# Altium footprint library Components.PcbLib: 46 footprints (part 3 of 3)
Each footprint in its own frame and in the unit in brackets; x right, y up, seen from the top. Pads: shape width x height; smd on the part's side, far side on the other; paste and mask are expansions set on the pad; w line width, h text height; cw(c..) or ccw(c..) is an arc to the next point about the centre after c.
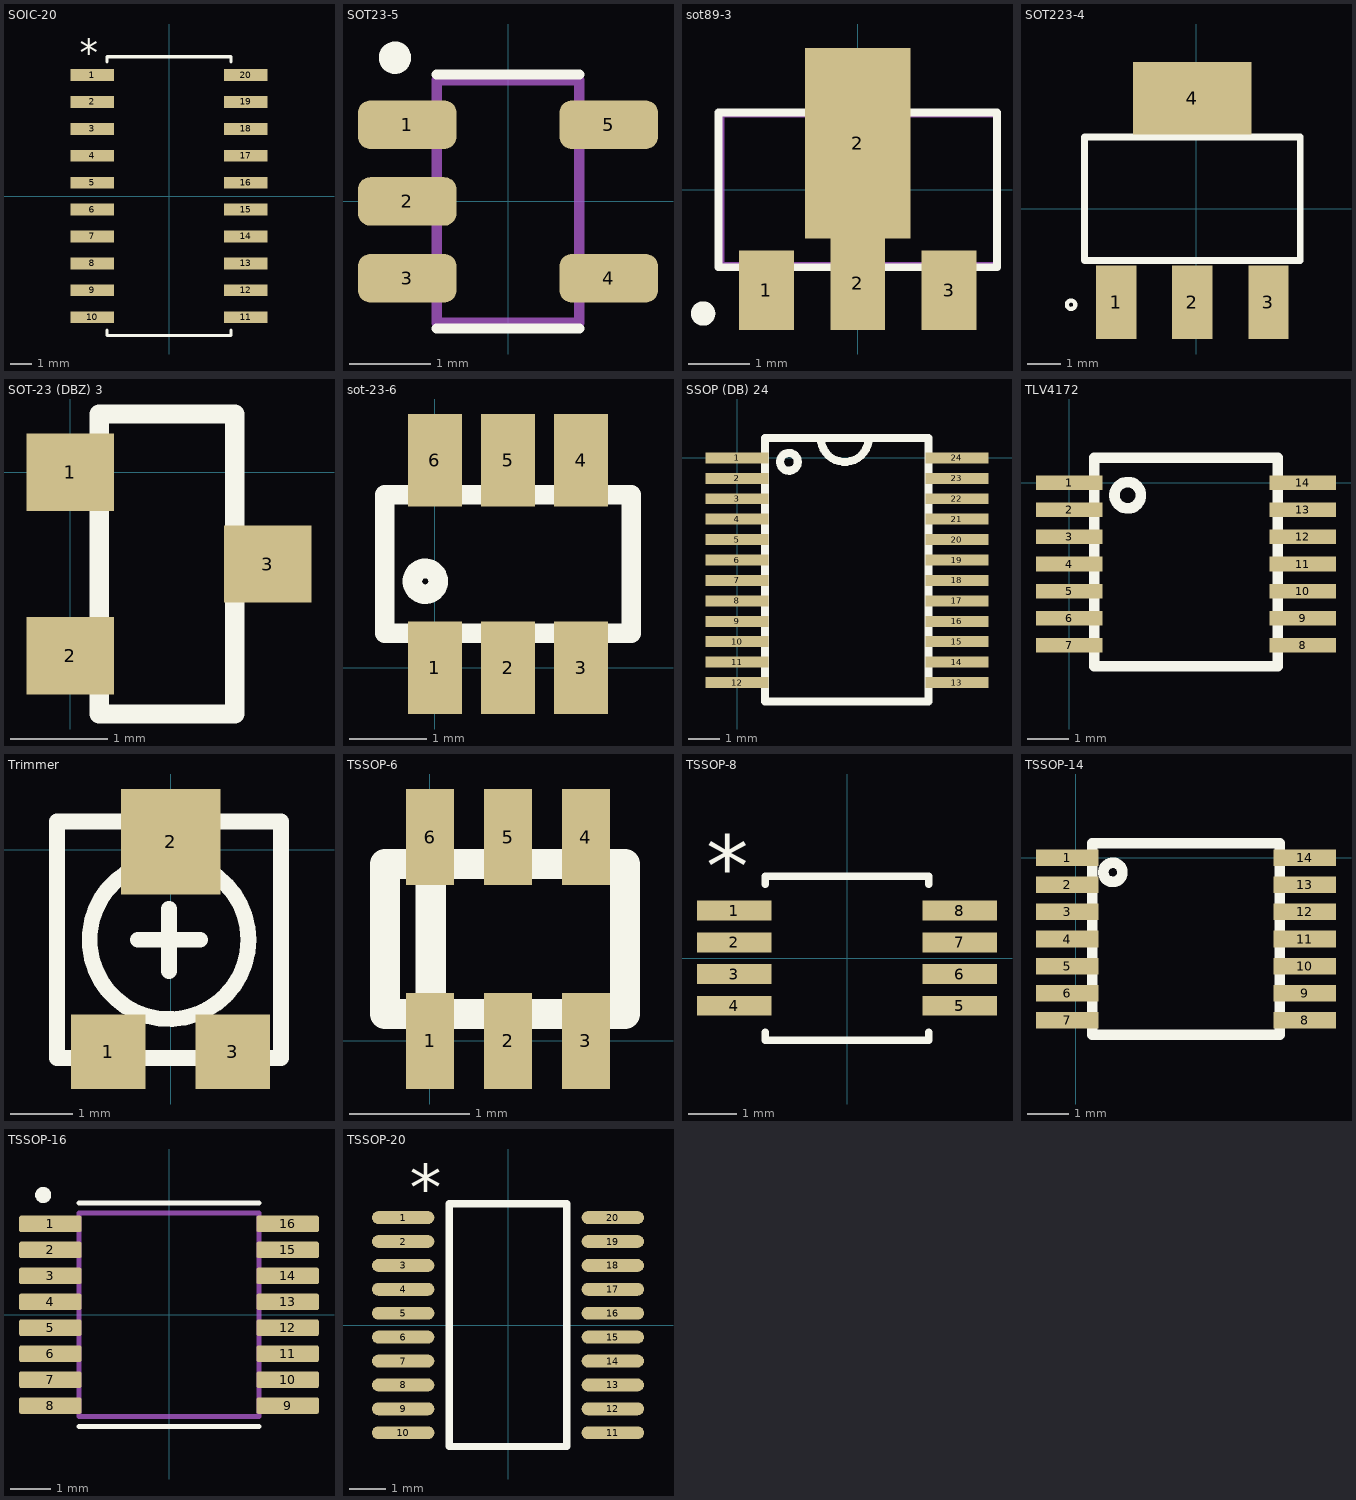
[diagram p2: the footprints below, top view; thin cyan lines are the x and y axes]

## SOIC-20 [mil]
pads (20):
  rect 81x22 smd paste+0 mask+0: 1(-143,225) 2(-143,175) 3(-143,125) 4(-143,75) 5(-143,25) 6(-143,-25) 7(-143,-75) 8(-143,-125) 9(-143,-175) 10(-143,-225) 11(143,-225) 12(143,-175) 13(143,-125) 14(143,-75) 15(143,-25) 16(143,25) 17(143,75) 18(143,125) 19(143,175) 20(143,225)
Top Overlay:
  lines w6: -115,-249.1 -115,-259 115,-259 115,-249.1 ; -115,249.1 -115,259 115,259 115,249.1
  text "*" at -165.5,242 h50
3D body "NS0020A.stp": height 78.74, standoff 0, extent -157.47,-247.04 149.61,249.02
3D body: height 10, standoff 0, extent 0,0 10,10

## SOT23-5 [mm]
pads (5):
  rrect50% 1.22x0.6 smd: 1(-1.245,0.95) 2(-1.245,0) 3(-1.245,-0.95) 4(1.245,-0.95) 5(1.245,0.95)
Top Overlay:
  circle w0.2: c-1.397,1.778 r0.1
  lines w0.127: -0.88,-1.57 0.88,-1.57 ; -0.88,1.57 0.88,1.57
Mechanical 13:
  lines w0.127: -0.88,-1.5 -0.88,1.5 0.88,1.5 0.88,-1.5 -0.88,-1.5

## sot89-3 [mm]
pads (4):
  rect 0.9x1.3 smd: 1(-1.5,-1.65) 3(1.5,-1.65)
  rect 0.9x1.526 smd: 2(0,-1.537)
  rect 1.733x3.125 smd: 2(0,0.763)
Top Overlay:
  circle w0.2: c-2.54,-2.032 r0.1
  lines w0.127: -2.286,-1.27 2.286,-1.27 2.286,1.27 -2.286,1.27 -2.286,-1.27
Mechanical 13:
  lines w0.127: -2.25,-1.25 2.286,-1.25 2.286,1.25 -2.25,1.25 -2.25,-1.25

## SOT223-4 [mil]
pads (4):
  rect 48x88 smd: 1(-96,-112) 2(-5,-112) 3(86,-112)
  rect 141.73x86.61 smd: 4(-5,132.01)
Top Overlay:
  circle w5: c-150,-115 r5
  lines w8: -134,-62.01 124,-62.01 124,85.63 -134,85.63 -134,-62.01

## SOT-23 (DBZ) 3 [mm]
height 1.12
pads (3):
  rect 0.9x0.8 smd: 1(0,0) 2(0,-1.9) 3(2.04,-0.95)
Top Overlay:
  lines w0.2: 0.3,-2.5 1.7,-2.5 1.7,0.6 0.3,0.6 0.3,-2.5

## sot-23-6 [mm]
pads (6):
  rect 0.7x1.2 smd: 1(0,0) 2(0.95,0) 3(1.9,0) 4(1.9,2.7) 5(0.95,2.7) 6(0,2.7)
Top Overlay:
  circle w0.254: c-0.125,1.125 r0.168
  lines w0.254: -0.65,0.45 2.55,0.45 2.55,2.25 -0.65,2.25 -0.65,1.35 -0.65,0.45
3D body "DBV0006A.stp": height 1.2, standoff 0, extent -0.525,-0.025 2.375,2.775

## SSOP (DB) 24 [mm] "SSOP (DB) 24"
height 2
pads (24):
  rect 2x0.35 smd: 1(0,0) 2(0,-0.65) 3(0,-1.3) 4(0,-1.95) 5(0,-2.6) 6(0,-3.25) 7(0,-3.9) 8(0,-4.55) 9(0,-5.2) 10(0,-5.85) 11(0,-6.5) 12(0,-7.15) 13(7,-7.15) 14(7,-6.5) 15(7,-5.85) 16(7,-5.2) 17(7,-4.55) 18(7,-3.9) 19(7,-3.25) 20(7,-2.6) 21(7,-1.95) 22(7,-1.3) 23(7,-0.65) 24(7,0)
Top Overlay:
  circle w0.254: c1.651,-0.127 r0.284
  lines w0.254: 2.667,0.635 ccw(c3.429,0.635) 4.191,0.635 ; 0.889,-7.747 0.889,0.635 6.096,0.635 6.096,-7.747 0.889,-7.747

## TLV4172 [mm] "14TSSOP"
height 1.2
pads (14):
  rect 1.6x0.35 smd: 1(0,0) 2(0,-0.65) 3(0,-1.3) 4(0,-1.95) 5(0,-2.6) 6(0,-3.25) 7(0,-3.9) 8(5.6,-3.9) 9(5.6,-3.25) 10(5.6,-2.6) 11(5.6,-1.95) 12(5.6,-1.3) 13(5.6,-0.65) 14(5.6,0)
Top Overlay:
  circle w0.254: c1.4,-0.3 r0.316
  lines w0.254: 0.6,-4.4 0.6,0.6 5,0.6 5,-4.4 0.6,-4.4

## Trimmer [mm] "surface_mount"
pads (3):
  rect 1.2x1.2 smd: 1(-1,-3.25) 3(1,-3.25)
  rect 1.6x1.7 smd: 2(0,0.125)
Top Overlay:
  circle w0.254: c-0.025,-1.45 r1.277
  lines w0.254: -0.025,-1.95 -0.025,-1.45 ; -0.025,-0.95 -0.025,-1.45 ; -0.025,-1.45 0.475,-1.45 -0.525,-1.45 -0.025,-1.45 ; -1.825,-3.35 -1.825,-1.45 -1.825,0.45 1.775,0.45 1.775,-3.35 -1.825,-3.35

## TSSOP-6 [mm] "N-Mosfet pair"
pads (6):
  rect 0.4x0.8 smd: 1(0,0) 2(0.65,0) 3(1.3,0) 4(1.3,1.7) 5(0.65,1.7) 6(0,1.7)
Top Overlay:
  lines w0.254: 0.004,0.252 0.004,1.475 ; -0.375,0.225 -0.375,0.85 -0.375,1.475 1.625,1.475 1.625,0.225 -0.375,0.225
3D body "SOT363.step": height 0.98, standoff 0.03, extent -0.475,-0.25 1.675,1.85

## TSSOP-8 [mil]
pads (8):
  rect 60x16 smd paste+0 mask+0: 1(-91,38.4) 2(-91,12.8) 3(-91,-12.8) 4(-91,-38.4) 5(91,-38.4) 6(91,-12.8) 7(91,12.8) 8(91,38.4)
Top Overlay:
  lines w6: -66,-59.5 -66,-66 66,-66 66,-59.5 ; -66,59.5 -66,66 66,66 66,59.5
  text "*" at -113.5,49.4 h50
3D body "21-0036K_MXM.step": height 43.11, standoff 0, extent -99.01,-60.98 99.02,60.99
3D body: height 10, standoff 0, extent 0,0 10,10

## TSSOP-14 [mm] "TSSOP-14"
pads (14):
  rect 1.5x0.4 smd: 1(-0.2,0) 2(-0.2,-0.65) 3(-0.2,-1.3) 4(-0.2,-1.95) 5(-0.2,-2.6) 6(-0.2,-3.25) 7(-0.2,-3.9) 8(5.5,-3.9) 9(5.5,-3.25) 10(5.5,-2.6) 11(5.5,-1.95) 12(5.5,-1.3) 13(5.5,-0.65) 14(5.5,0)
Top Overlay:
  circle w0.254: c0.895,-0.35 r0.23
  lines w0.254: 0.4,-4.25 0.4,0.35 4.9,0.35 4.9,-4.25 0.4,-4.25

## TSSOP-16 [mm]
pads (16):
  rrect25% 1.57x0.41 smd: 1(-2.97,2.275) 2(-2.97,1.625) 3(-2.97,0.975) 4(-2.97,0.325) 5(-2.97,-0.325) 6(-2.97,-0.975) 7(-2.97,-1.625) 8(-2.97,-2.275) 9(2.97,-2.275) 10(2.97,-1.625) 11(2.97,-0.975) 12(2.97,-0.325) 13(2.97,0.325) 14(2.97,0.975) 15(2.97,1.625) 16(2.97,2.275)
Top Overlay:
  circle w0.2: c-3.15,3 r0.1
  lines w0.127: -2.25,-2.8 2.25,-2.8 ; -2.25,2.8 2.25,2.8
Mechanical 13:
  lines w0.127: -2.25,-2.55 -2.25,2.55 2.25,2.55 2.25,-2.55 -2.25,-2.55

## TSSOP-20 [mm]
pads (20):
  oval 1.7x0.35 smd paste-0.102 mask+0.051: 1(-2.85,2.925) 2(-2.85,2.275) 3(-2.85,1.625) 4(-2.85,0.975) 5(-2.85,0.325) 6(-2.85,-0.325) 7(-2.85,-0.975) 8(-2.85,-1.625) 9(-2.85,-2.275) 10(-2.85,-2.925) 11(2.85,-2.925) 12(2.85,-2.275) 13(2.85,-1.625) 14(2.85,-0.975) 15(2.85,-0.325) 16(2.85,0.325) 17(2.85,0.975) 18(2.85,1.625) 19(2.85,2.275) 20(2.85,2.925)
Top Overlay:
  lines w0.2: -1.6,-3.3 -1.6,3.3 1.6,3.3 1.6,-3.3 -1.6,-3.3
  text "*" at -2.669,3.113 h1.27
3D body: height 0.25, standoff 0, extent 0,0 0.254,0.254
3D body "PW0020A.stp": height 1.13, standoff 0, extent -3.2,-3.25 3.2,3.25